# Altium footprint library det.PcbLib: 8 footprints
Each footprint in its own frame and in the unit in brackets; x right, y up, seen from the top. Pads: shape width x height; smd on the part's side, far side on the other; paste and mask are expansions set on the pad; w line width, h text height; cw(c..) or ccw(c..) is an arc to the next point about the centre after c.
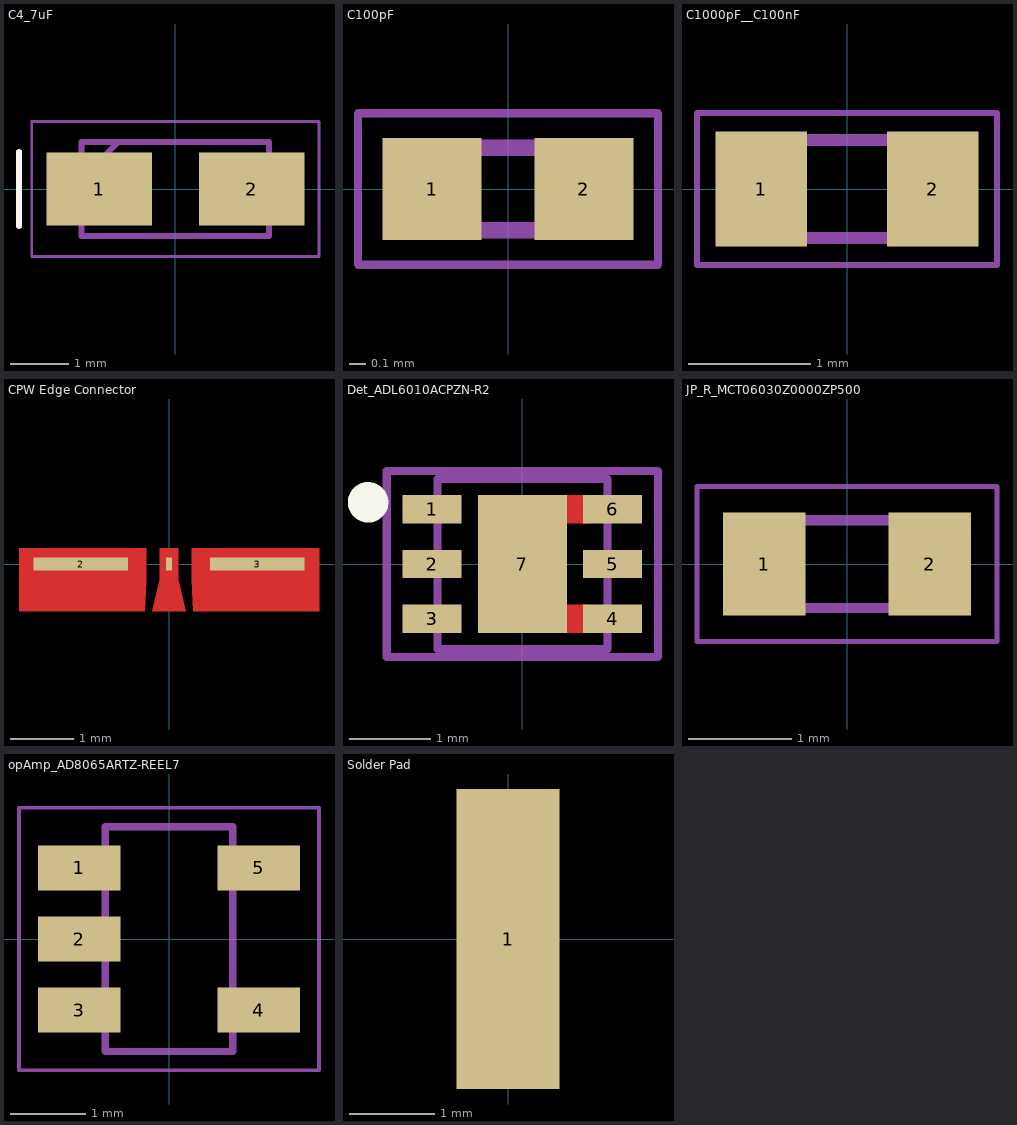
[diagram p0: the footprints below, top view; thin cyan lines are the x and y axes]

## C4_7uF [mm]
pads (2):
  rect 1.8x1.25 smd: 1(-1.3,0) 2(1.3,0)
Top Overlay:
  lines w0.1: -2.667,-0.635 -2.667,0.635
Top Assembly:
  lines w0.05: -2.45,-1.15 -2.45,1.15 2.45,1.15 2.45,-1.15 -2.45,-1.15
  lines w0.1: -1.6,0.175 -0.975,0.8 ; -1.6,-0.8 -1.6,0.8 1.6,0.8 1.6,-0.8 -1.6,-0.8
  text ".Designator" at -3.499,-0.233 h0.7
3D body "C4_7uF.stp": height 1.84, standoff 0.01, extent -1.702,-0.948 1.702,0.95

## C100pF [mm]
pads (2):
  rect 0.6x0.62 smd: 1(-0.46,0) 2(0.46,0)
Top Assembly:
  lines w0.05: -0.91,-0.46 -0.91,0.46 0.91,0.46 0.91,-0.46 -0.91,-0.46
  lines w0.1: -0.5,-0.25 -0.5,0.25 0.5,0.25 0.5,-0.25 -0.5,-0.25
  text ".Designator" at -1.999,-0.133 h0.4
3D body "C100pF.stp": height 0.55, standoff 0, extent -0.5,-0.25 0.5,0.25

## C1000pF__C100nF [mm]
pads (2):
  rect 0.75x0.94 smd: 1(-0.7,0) 2(0.7,0)
Top Assembly:
  lines w0.05: -1.225,-0.62 1.225,-0.62 1.225,0.62 -1.225,0.62 -1.225,-0.62
  lines w0.1: -0.8,-0.4 0.8,-0.4 0.8,0.4 -0.8,0.4 -0.8,-0.4
  text ".Designator" at -2.499,-0.167 h0.5
3D body "C1000pF.stp": height 0.9, standoff 0, extent -0.8,-0.4 0.8,0.4

## CPW Edge Connector [mm]
pads (3):
  rect 0.1x0.2 smd paste-2539.97: 1(0,0)
  rect 1.5x0.2 smd paste-2539.97: 2(-1.4,0) 3(1.4,0)
Top Layer:
  region: -2.383,0.25 -0.361,0.25 -0.361,-0.25 -0.383,-0.75 -2.383,-0.75
  region: -0.15,0.25 0.15,0.25 0.15,-0.25 0.269,-0.75 -0.269,-0.75 -0.15,-0.25
  region: 2.383,0.25 0.361,0.25 0.361,-0.25 0.383,-0.75 2.383,-0.75

## Det_ADL6010ACPZN-R2 [mm]
pads (7):
  rect 0.73x0.35 smd paste+0 mask+0: 1(-1.115,0.675) 2(-1.115,0) 3(-1.115,-0.675) 4(1.115,-0.675) 5(1.115,0) 6(1.115,0.675)
  rect 1.1x1.7 smd paste+0 mask+0: 7(0,0)
Top Layer:
  rectangle: 0.516,0.5 0.814,0.85
  rectangle: 0.502,-0.85 0.793,-0.5
Top Overlay:
  circle w0.25: c-1.905,0.762 r0.125
Top Assembly:
  lines w0.1: -1.675,-1.15 1.675,-1.15 1.675,1.15 -1.675,1.15 -1.675,-1.15 ; -1.05,-1.05 1.05,-1.05 1.05,1.05 -1.05,1.05 -1.05,-1.05
  text ".Designator" at -2.19,-0.227 h1
3D body "IC_Analog_Devices_ADL6010ACPZN-R2_eec.STEP": height 0.25, standoff 0, extent -1.675,-1.15 1.675,1.15

## JP_R_MCT06030Z0000ZP500 [mm]
pads (2):
  rect 0.8x1 smd: 1(-0.8,0) 2(0.8,0)
Top Assembly:
  lines w0.05: -1.451,-0.75 1.449,-0.75 1.449,0.75 -1.451,0.75 -1.451,-0.75
  lines w0.1: -0.775,-0.426 0.775,-0.426 0.775,0.424 -0.775,0.424 -0.775,-0.426
  text ".Designator" at -2,-0.133 h0.4
3D body "JP_small_MCT06030Z0000ZP500.stp": height 0.46, standoff 0.01, extent -0.772,-0.426 0.778,0.424

## opAmp_AD8065ARTZ-REEL7 [mm] "SOT-23, 5-Leads, Body 2.9x1.6mm, Pitch 0.95mm, IPC Medium Density"
height 1.45
pads (5):
  rect 1.1x0.6 smd: 1(-1.2,0.95) 2(-1.2,0) 3(-1.2,-0.95) 4(1.2,-0.95) 5(1.2,0.95)
Top Assembly:
  lines w0.05: -2,-1.75 2,-1.75 2,1.75 -2,1.75 -2,-1.75
  lines w0.1: -0.85,-1.5 0.85,-1.5 0.85,1.5 -0.85,1.5 -0.85,-1.5
  text ".Designator" at -2.284,-0.155 h1
3D body: height 1.45, standoff 0.05, extent -0.85,-1.5 0.85,1.5

## Solder Pad [mm]
pads (1):
  rect 1.2x3.5 smd paste-2539.97: 1(0,0)
Top Assembly:
  text ".Designator" at 0.233,-3.499 h0.7